# Altium footprint library ERM8-060-02.0-L-DV.PcbLib: 1 footprints
Each footprint in its own frame and in the unit in brackets; x right, y up, seen from the top. Pads: shape width x height; smd on the part's side, far side on the other; paste and mask are expansions set on the pad; w line width, h text height; cw(c..) or ccw(c..) is an arc to the next point about the centre after c.
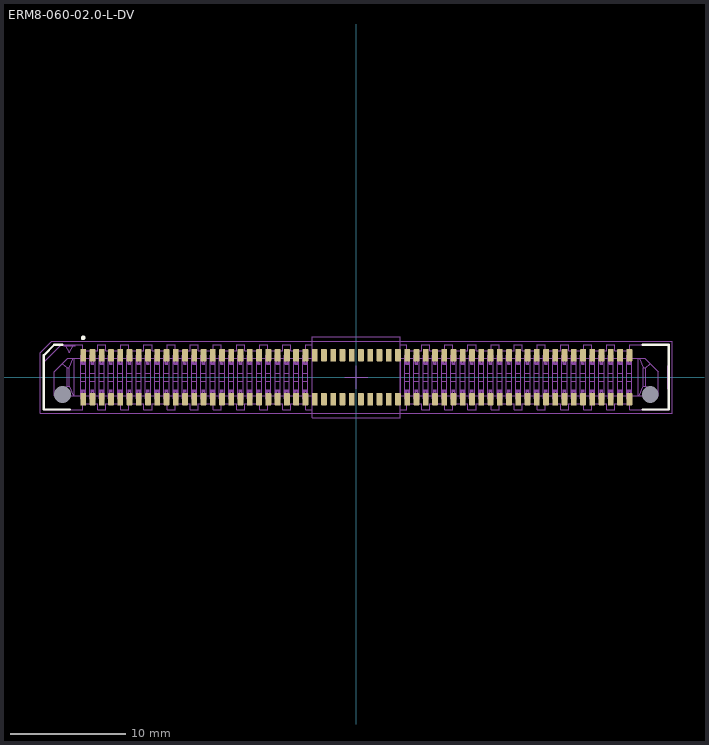
[diagram p0: the footprint, top view; thin cyan lines are the x and y axes]

## ERM8-060-02.0-L-DV [mm]
height 6.015
pads (122):
  rrect33% 0.5x1.1 smd: 1(-23.6,1.9) 2(-23.6,-1.9) 3(-22.8,1.9) 4(-22.8,-1.9) 5(-22,1.9) 6(-22,-1.9) 7(-21.2,1.9) 8(-21.2,-1.9) 9(-20.4,1.9) 10(-20.4,-1.9) 11(-19.6,1.9) 12(-19.6,-1.9) 13(-18.8,1.9) 14(-18.8,-1.9) 15(-18,1.9) 16(-18,-1.9) 17(-17.2,1.9) 18(-17.2,-1.9) 19(-16.4,1.9) 20(-16.4,-1.9) 21(-15.6,1.9) 22(-15.6,-1.9) 23(-14.8,1.9) 24(-14.8,-1.9) 25(-14,1.9) 26(-14,-1.9) 27(-13.2,1.9) 28(-13.2,-1.9) 29(-12.4,1.9) 30(-12.4,-1.9) 31(-11.6,1.9) 32(-11.6,-1.9) 33(-10.8,1.9) 34(-10.8,-1.9) 35(-10,1.9) 36(-10,-1.9) 37(-9.2,1.9) 38(-9.2,-1.9) 39(-8.4,1.9) 40(-8.4,-1.9) 41(-7.6,1.9) 42(-7.6,-1.9) 43(-6.8,1.9) 44(-6.8,-1.9) 45(-6,1.9) 46(-6,-1.9) 47(-5.2,1.9) 48(-5.2,-1.9) 49(-4.4,1.9) 50(-4.4,-1.9) 51(-3.6,1.9) 52(-3.6,-1.9) 53(-2.8,1.9) 54(-2.8,-1.9) 55(-2,1.9) 56(-2,-1.9) 57(-1.2,1.9) 58(-1.2,-1.9) 59(-0.4,1.9) 60(-0.4,-1.9) 61(0.4,1.9) 62(0.4,-1.9) 63(1.2,1.9) 64(1.2,-1.9) 65(2,1.9) 66(2,-1.9) 67(2.8,1.9) 68(2.8,-1.9) 69(3.6,1.9) 70(3.6,-1.9) 71(4.4,1.9) 72(4.4,-1.9) 73(5.2,1.9) 74(5.2,-1.9) 75(6,1.9) 76(6,-1.9) 77(6.8,1.9) 78(6.8,-1.9) 79(7.6,1.9) 80(7.6,-1.9) 81(8.4,1.9) 82(8.4,-1.9) 83(9.2,1.9) 84(9.2,-1.9) 85(10,1.9) 86(10,-1.9) 87(10.8,1.9) 88(10.8,-1.9) 89(11.6,1.9) 90(11.6,-1.9) 91(12.4,1.9) 92(12.4,-1.9) 93(13.2,1.9) 94(13.2,-1.9) 95(14,1.9) 96(14,-1.9) 97(14.8,1.9) 98(14.8,-1.9) 99(15.6,1.9) 100(15.6,-1.9) 101(16.4,1.9) 102(16.4,-1.9) 103(17.2,1.9) 104(17.2,-1.9) 105(18,1.9) 106(18,-1.9) 107(18.8,1.9) 108(18.8,-1.9) 109(19.6,1.9) 110(19.6,-1.9) 111(20.4,1.9) 112(20.4,-1.9) 113(21.2,1.9) 114(21.2,-1.9) 115(22,1.9) 116(22,-1.9) 117(22.8,1.9) 118(22.8,-1.9) 119(23.6,1.9) 120(23.6,-1.9)
  round 0 hole 1.45 unplated: H1(-25.4,-1.5) H2(25.4,-1.5)
Top Overlay:
  circle w0.2: c-23.6,3.4 r0.1
  lines w0.2: -25.404,2.8 -26.1,2.8 -27,1.9 -27,-2.8 -24.76,-2.8 ; 24.76,-2.8 27,-2.8 27,2.8 24.76,2.8
Top Assembly:
  drawing of 5880 lines, arcs and shapes, not listed
  text "119" at 24.114,1.852 h0.5
  text "120" at 24.114,-2.339 h0.5
  text "1" at -24.159,1.925 h0.5
  text "2" at -24.398,-2.451 h0.5
Top Courtyard:
  lines w0.05: -27.3,-3.1 27.3,-3.1 27.3,3.1 -26.3,3.1 -27.3,2.1 -27.3,-3.1
Top Designator:
  text ".Designator" at 0,0 h1
Top Component Center:
  lines w0.05: -1,0 1,0 ; 0,-1 0,1
3D body "ERM8-060-02.0-L-DV-TR.stp": height 5.96, standoff -1.06, extent -27,-2.8 27,2.8